# Altium schematic symbol library CIRCLE_FILLED.SchLib: 1 symbol
Pins are listed as number, name and electrical type; pins without a type are passive.

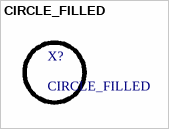
[diagram p0: symbol CIRCLE_FILLED]

## CIRCLE_FILLED
designator X?
Filled circle test